# EAGLE library part AS1701/06 (library Audio-Power-amlifier V.2.0)
The AS1701 and AS1706 are 1.6W bridged audio power amplifiers that provide excellent circuit reliability, providing a very low-cost solution by eliminating external components when used with 2.7 to 5.5Vpowered circuits.
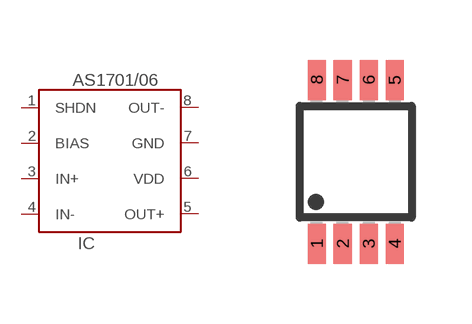
[diagram p176: symbol with the pads of MSOP8; footprint MSOP8]

Designator prefix IC

## AS1701/06  [MSOP8]
1  SHDN
2  BIAS
3  IN+  in
4  IN-  in
5  OUT+  out
6  VDD  pwr
7  GND  pwr
8  OUT-  out

## Footprint MSOP8 (pad centres in mm)
Micro Small Outline Package Grid .65mm
smd 0.45 x 1: 1 -0.975,-2.05; 2 -0.325,-2.05; 3 0.325,-2.05; 4 0.975,-2.05; 5 0.975,2.05; 6 0.325,2.05; 7 -0.325,2.05; 8 -0.975,2.05